# Altium schematic symbol library Components - 22.05.24 - 13.34.SchLib: 1 symbol
Pins are listed as number, name and electrical type; pins without a type are passive.

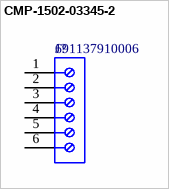
[diagram p0: symbol CMP-1502-03345-2]

## CMP-1502-03345-2
designator J?, comment 691137910006
NexarPartId: 105950641
footprint 691137910006 (Horizontal Cable Entry with Pressure Clamp, pitch 7.5mm, 06p)
pins: 1, 2, 3, 4, 5, 6